# EAGLE library part 74HCT151PW (library NXP_By_element14_Batch_1)
8-input multiplexer
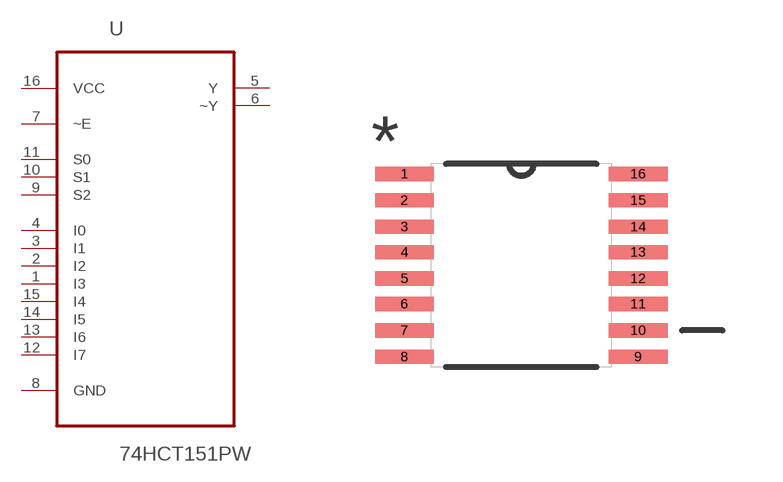
[diagram p179: symbol with the pads of SOP65P640X110-16N; footprint SOP65P640X110-16N]

Designator prefix U

## 74HCT151PW (MPN: 74HCT151PW; OC_FARNELL: 1631679; OC_NEWARK: 03P2746; PACKAGE: TSSOP-16; SUPPLIER: NXP)  [SOP65P640X110-16N]
1  I3  in
2  I2  in
3  I1  in
4  I0  in
5  Y  out
6  ~Y  out
7  ~E  in
8  GND  pas
9  S2  in
10  S1  in
11  S0  in
12  I7  in
13  I6  in
14  I5  in
15  I4  in
16  VCC  pwr

## Footprint SOP65P640X110-16N (pad centres in mm)
smd 1.473 x 0.356: 1 -2.921,2.286; 2 -2.921,1.626; 3 -2.921,0.965; 4 -2.921,0.33; 5 -2.921,-0.33; 6 -2.921,-0.965; 7 -2.921,-1.626; 8 -2.921,-2.286; 9 2.921,-2.286; 10 2.921,-1.626; 11 2.921,-0.965; 12 2.921,-0.33; 13 2.921,0.33; 14 2.921,0.965; 15 2.921,1.626; 16 2.921,2.286